# Altium schematic symbol library KAF32LR71E106KU.SchLib: 1 symbol
Pins are listed as number, name and electrical type; pins without a type are passive.

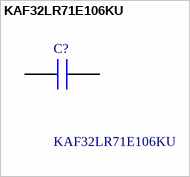
[diagram p0: symbol KAF32LR71E106KU]

## KAF32LR71E106KU
designator C?
Multilayer Ceramic Capacitors MLCC - SMD/SMT 25V 10uF X7R 1210 10% AEC-Q200 FLEXITERM; Manufacturer_Name: KYOCERA; Geometry.Height: 2.8mm; Mouser Part Number: 581-KAF32LR71E106KU; Mouser Price/Stock: https://www.mouser.co.uk/ProductDetail/KYOCERA-AVX/KAF32LR71E106KU?qs=Jm2GQyTW%2Fbg0iZZwi55ltw%3D%3D; Manufacturer_Part_Number: KAF32LR71E106KU; Datasheet Link: https://datasheets.kyocera-avx.com/FlexitermMLCC.pdf
footprint CAPC3325X280N
pins: 1, 2